# EAGLE library part LM2765M6X/NOPB (library CYCFI_Power)
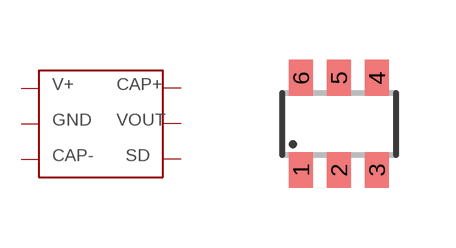
[diagram p0: symbol with the pads of SOT23-6; footprint SOT23-6]

Designator prefix -

## LM2765M6X/NOPB  [SOT23-6]
1  V+
2  GND
3  CAP-
4  SD
5  VOUT
6  CAP+

## Footprint SOT23-6 (pad centres in mm)
smd 0.6 x 0.9: 1 -0.95,-1.15; 2 0,-1.15; 3 0.95,-1.15; 4 0.95,1.15; 5 0,1.15; 6 -0.95,1.15